# Altium integrated library Altera Cyclone IV E.IntLib: 223 symbols (part 11 of 32)
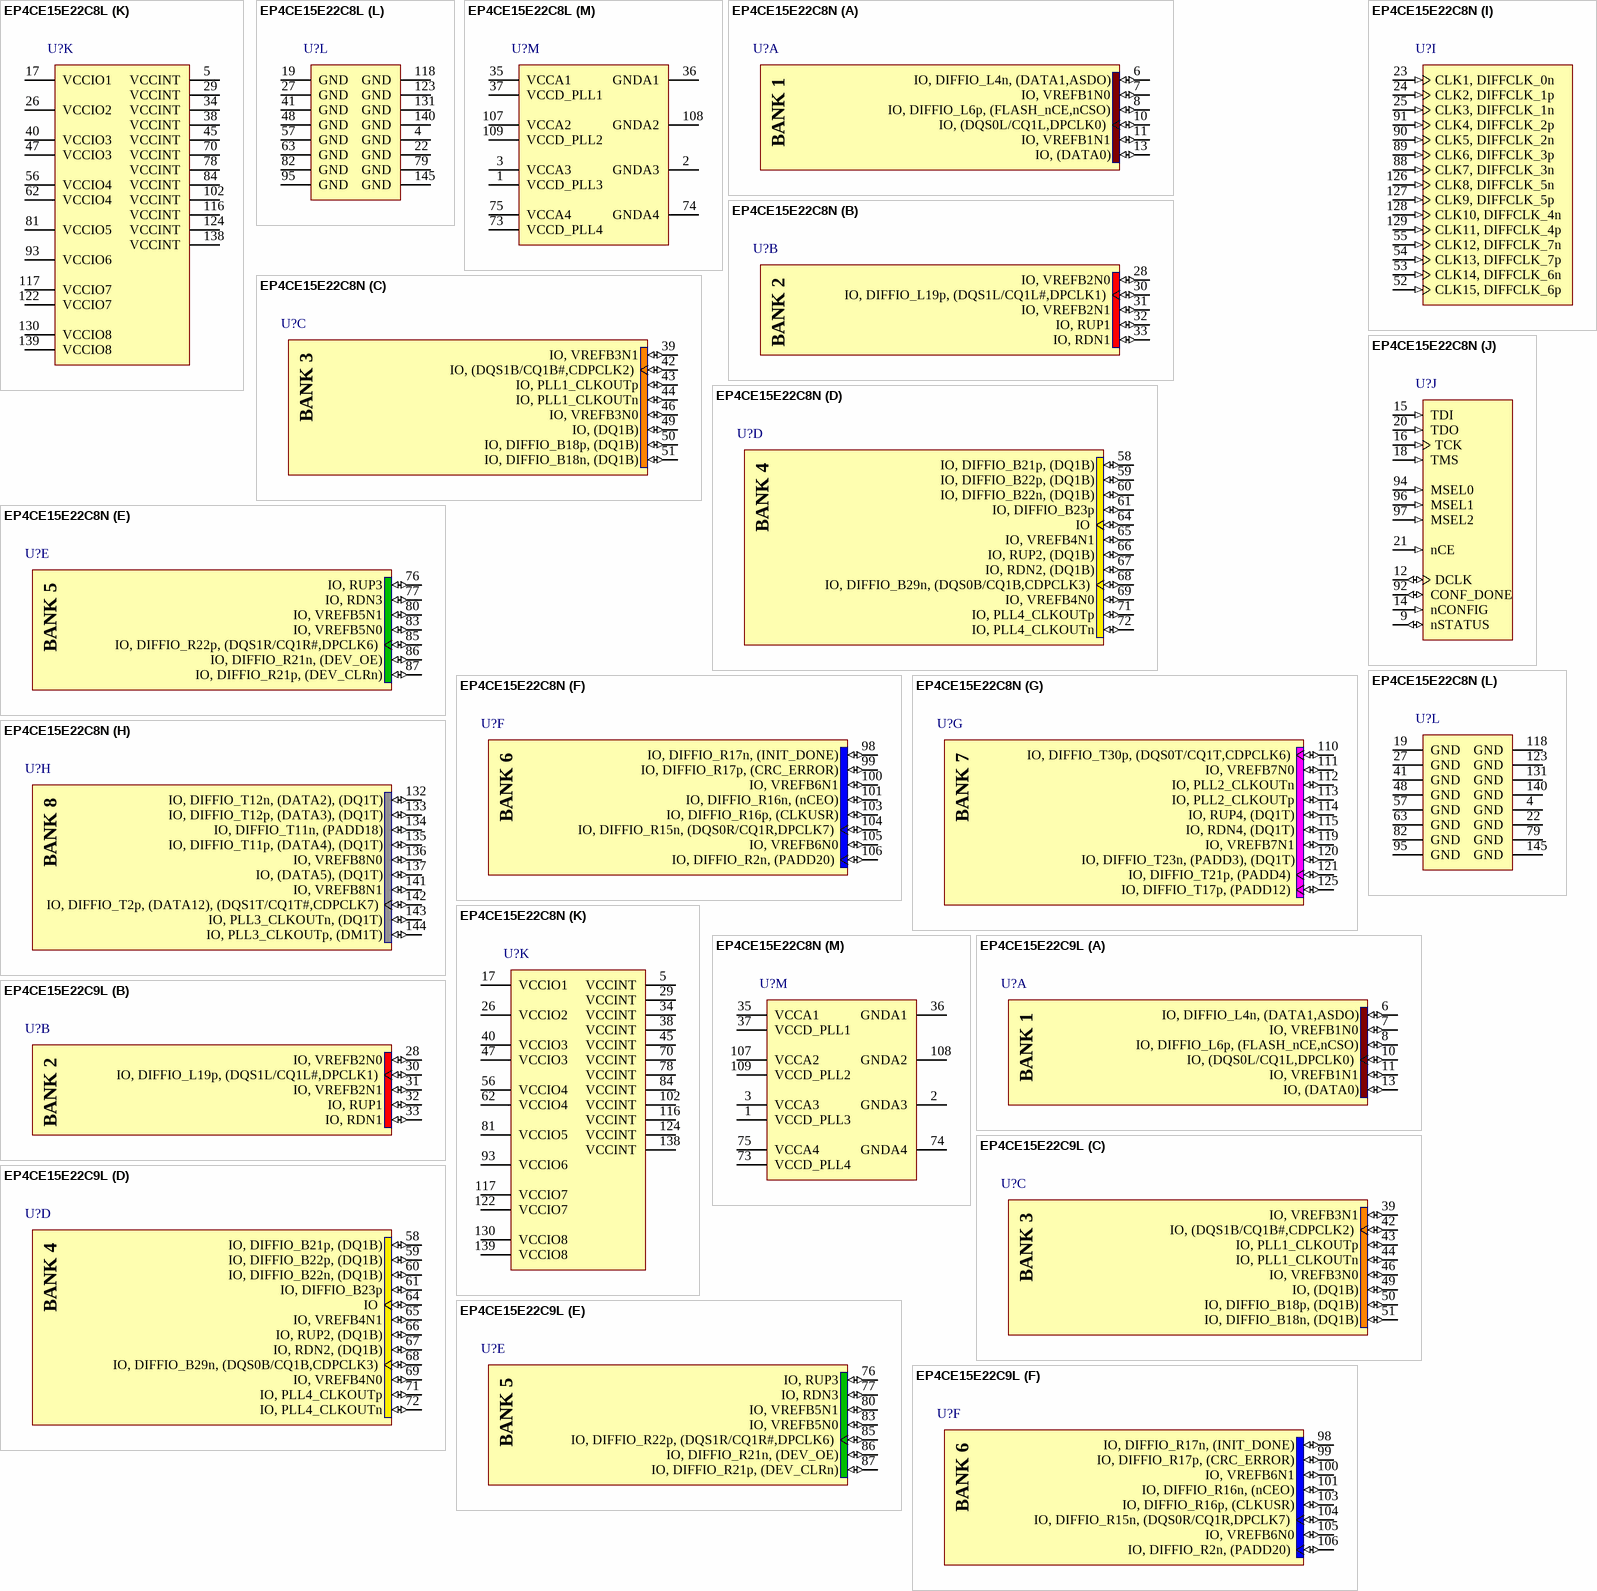
[diagram p505: symbols EP4CE15E22C8L to EP4CE15E22C9L]

## EP4CE15E22C8N
designator U?
Cyclone IV Family FPGA, 1.2V Core, 81 I/O Pins, 4 PLLs, 144-Pin QFP, Speed Grade 8, Commercial Grade, Pb-Free; Manufacturer: Altera; DatasheetVersion: ver1.6, Nov-2011; PackageVersion: ver1.0, Jun-2011; PackageReference: EQFP144_A-165_D2-67; PackageDescription: 144-Pin Plastic Enhanced Quad Flat Pack (EQFP) - Wire Bond - A:1.65 - D2:6.7; Code_JEDEC: MS-026-BFB-HD; ComponentLink1Description: Manufacturer URL; ComponentLink1URL: http://www.altera.com/; ComponentLink2Description: Handbook; ComponentLink2URL: http://www.altera.com/literature/hb/cyclone-iv/cyclone4-handbook.pdf; ComponentLink3Description: Pinout; ComponentLink3URL: http://www.altera.com/literature/lit-dp.jsp?category=cyc%204&showspreadsheet=y; ComponentLink4Description: Package Specification; ComponentLink4URL: http://www.altera.com/devicepackaging/04R00221-02.pdf
footprint EQFP144_A-165_D2-67_N (Shrink QFP, 144-Leads, Body 20x20mm, Pitch 0.5mm, Thermal Pad 6.85x6.85mm, IPC Medium Density)
footprint EQFP144_A-165_D2-67_L (Shrink QFP, 144-Leads, Body 20x20mm, Pitch 0.5mm, Thermal Pad 6.85x6.85mm, IPC High Density)
footprint EQFP144_A-165_D2-67_M (Shrink QFP, 144-Leads, Body 20x20mm, Pitch 0.5mm, Thermal Pad 6.85x6.85mm, IPC Low Density)
part A pins: 6 IO, DIFFIO_L4n, (DATA1,ASDO) (io), 7 IO, VREFB1N0 (io), 8 IO, DIFFIO_L6p, (FLASH_nCE,nCSO) (io), 10 IO, (DQS0L/CQ1L,DPCLK0) (io), 11 IO, VREFB1N1 (io), 13 IO, (DATA0) (io)
part B pins: 28 IO, VREFB2N0 (io), 30 IO, DIFFIO_L19p, (DQS1L/CQ1L#,DPCLK1) (io), 31 IO, VREFB2N1 (io), 32 IO, RUP1 (io), 33 IO, RDN1 (io)
part C pins: 39 IO, VREFB3N1 (io), 42 IO, (DQS1B/CQ1B#,CDPCLK2) (io), 43 IO, PLL1_CLKOUTp (io), 44 IO, PLL1_CLKOUTn (io), 46 IO, VREFB3N0 (io), 49 IO, (DQ1B) (io), 50 IO, DIFFIO_B18p, (DQ1B) (io), 51 IO, DIFFIO_B18n, (DQ1B) (io)
part D pins: 58 IO, DIFFIO_B21p, (DQ1B) (io), 59 IO, DIFFIO_B22p, (DQ1B) (io), 60 IO, DIFFIO_B22n, (DQ1B) (io), 61 IO, DIFFIO_B23p (io), 64 IO (io), 65 IO, VREFB4N1 (io), 66 IO, RUP2, (DQ1B) (io), 67 IO, RDN2, (DQ1B) (io), 68 IO, DIFFIO_B29n, (DQS0B/CQ1B,CDPCLK3) (io), 69 IO, VREFB4N0 (io), 71 IO, PLL4_CLKOUTp (io), 72 IO, PLL4_CLKOUTn (io)
part E pins: 76 IO, RUP3 (io), 77 IO, RDN3 (io), 80 IO, VREFB5N1 (io), 83 IO, VREFB5N0 (io), 85 IO, DIFFIO_R22p, (DQS1R/CQ1R#,DPCLK6) (io), 86 IO, DIFFIO_R21n, (DEV_OE) (io), 87 IO, DIFFIO_R21p, (DEV_CLRn) (io)
part F pins: 98 IO, DIFFIO_R17n, (INIT_DONE) (io), 99 IO, DIFFIO_R17p, (CRC_ERROR) (io), 100 IO, VREFB6N1 (io), 101 IO, DIFFIO_R16n, (nCEO) (io), 103 IO, DIFFIO_R16p, (CLKUSR) (io), 104 IO, DIFFIO_R15n, (DQS0R/CQ1R,DPCLK7) (io), 105 IO, VREFB6N0 (io), 106 IO, DIFFIO_R2n, (PADD20) (io)
part G pins: 110 IO, DIFFIO_T30p, (DQS0T/CQ1T,CDPCLK6) (io), 111 IO, VREFB7N0 (io), 112 IO, PLL2_CLKOUTn (io), 113 IO, PLL2_CLKOUTp (io), 114 IO, RUP4, (DQ1T) (io), 115 IO, RDN4, (DQ1T) (io), 119 IO, VREFB7N1 (io), 120 IO, DIFFIO_T23n, (PADD3), (DQ1T) (io), 121 IO, DIFFIO_T21p, (PADD4) (io), 125 IO, DIFFIO_T17p, (PADD12) (io)
part H pins: 132 IO, DIFFIO_T12n, (DATA2), (DQ1T) (io), 133 IO, DIFFIO_T12p, (DATA3), (DQ1T) (io), 134 IO, DIFFIO_T11n, (PADD18) (io), 135 IO, DIFFIO_T11p, (DATA4), (DQ1T) (io), 136 IO, VREFB8N0 (io), 137 IO, (DATA5), (DQ1T) (io), 141 IO, VREFB8N1 (io), 142 IO, DIFFIO_T2p, (DATA12), (DQS1T/CQ1T#,CDPCLK7) (io), 143 IO, PLL3_CLKOUTn, (DQ1T) (io), 144 IO, PLL3_CLKOUTp, (DM1T) (io)
part I pins: 23 CLK1, DIFFCLK_0n (in), 24 CLK2, DIFFCLK_1p (in), 25 CLK3, DIFFCLK_1n (in), 52 CLK15, DIFFCLK_6p (in), 53 CLK14, DIFFCLK_6n (in), 54 CLK13, DIFFCLK_7p (in), 55 CLK12, DIFFCLK_7n (in), 88 CLK7, DIFFCLK_3n (in), 89 CLK6, DIFFCLK_3p (in), 90 CLK5, DIFFCLK_2n (in), 91 CLK4, DIFFCLK_2p (in), 126 CLK8, DIFFCLK_5n (in), 127 CLK9, DIFFCLK_5p (in), 128 CLK10, DIFFCLK_4n (in), 129 CLK11, DIFFCLK_4p (in)
part J pins: 9 nSTATUS (io), 12 DCLK (io), 14 nCONFIG (in), 15 TDI (in), 16 TCK (in), 18 TMS (in), 20 TDO (in), 21 nCE (in), 92 CONF_DONE (io), 94 MSEL0 (in), 96 MSEL1 (in), 97 MSEL2 (in)
part K pins: 5 VCCINT (power), 17 VCCIO1 (power), 26 VCCIO2 (power), 29 VCCINT (power), 34 VCCINT (power), 38 VCCINT (power), 40 VCCIO3 (power), 45 VCCINT (power), 47 VCCIO3 (power), 56 VCCIO4 (power), 62 VCCIO4 (power), 70 VCCINT (power), 78 VCCINT (power), 81 VCCIO5 (power), 84 VCCINT (power), 93 VCCIO6 (power), 102 VCCINT (power), 116 VCCINT (power), 117 VCCIO7 (power), 122 VCCIO7 (power), 124 VCCINT (power), 130 VCCIO8 (power), 138 VCCINT (power), 139 VCCIO8 (power)
part L pins: 4 GND (power), 19 GND (power), 22 GND (power), 27 GND (power), 41 GND (power), 48 GND (power), 57 GND (power), 63 GND (power), 79 GND (power), 82 GND (power), 95 GND (power), 118 GND (power), 123 GND (power), 131 GND (power), 140 GND (power), 145 GND (power)
part M pins: 1 VCCD_PLL3 (power), 2 GNDA3 (power), 3 VCCA3 (power), 35 VCCA1 (power), 36 GNDA1 (power), 37 VCCD_PLL1 (power), 73 VCCD_PLL4 (power), 74 GNDA4 (power), 75 VCCA4 (power), 107 VCCA2 (power), 108 GNDA2 (power), 109 VCCD_PLL2 (power)
part A text: BANK 1
part B text: BANK 2
part C text: BANK 3
part D text: BANK 4
part E text: BANK 5
part F text: BANK 6
part G text: BANK 7
part H text: BANK 8

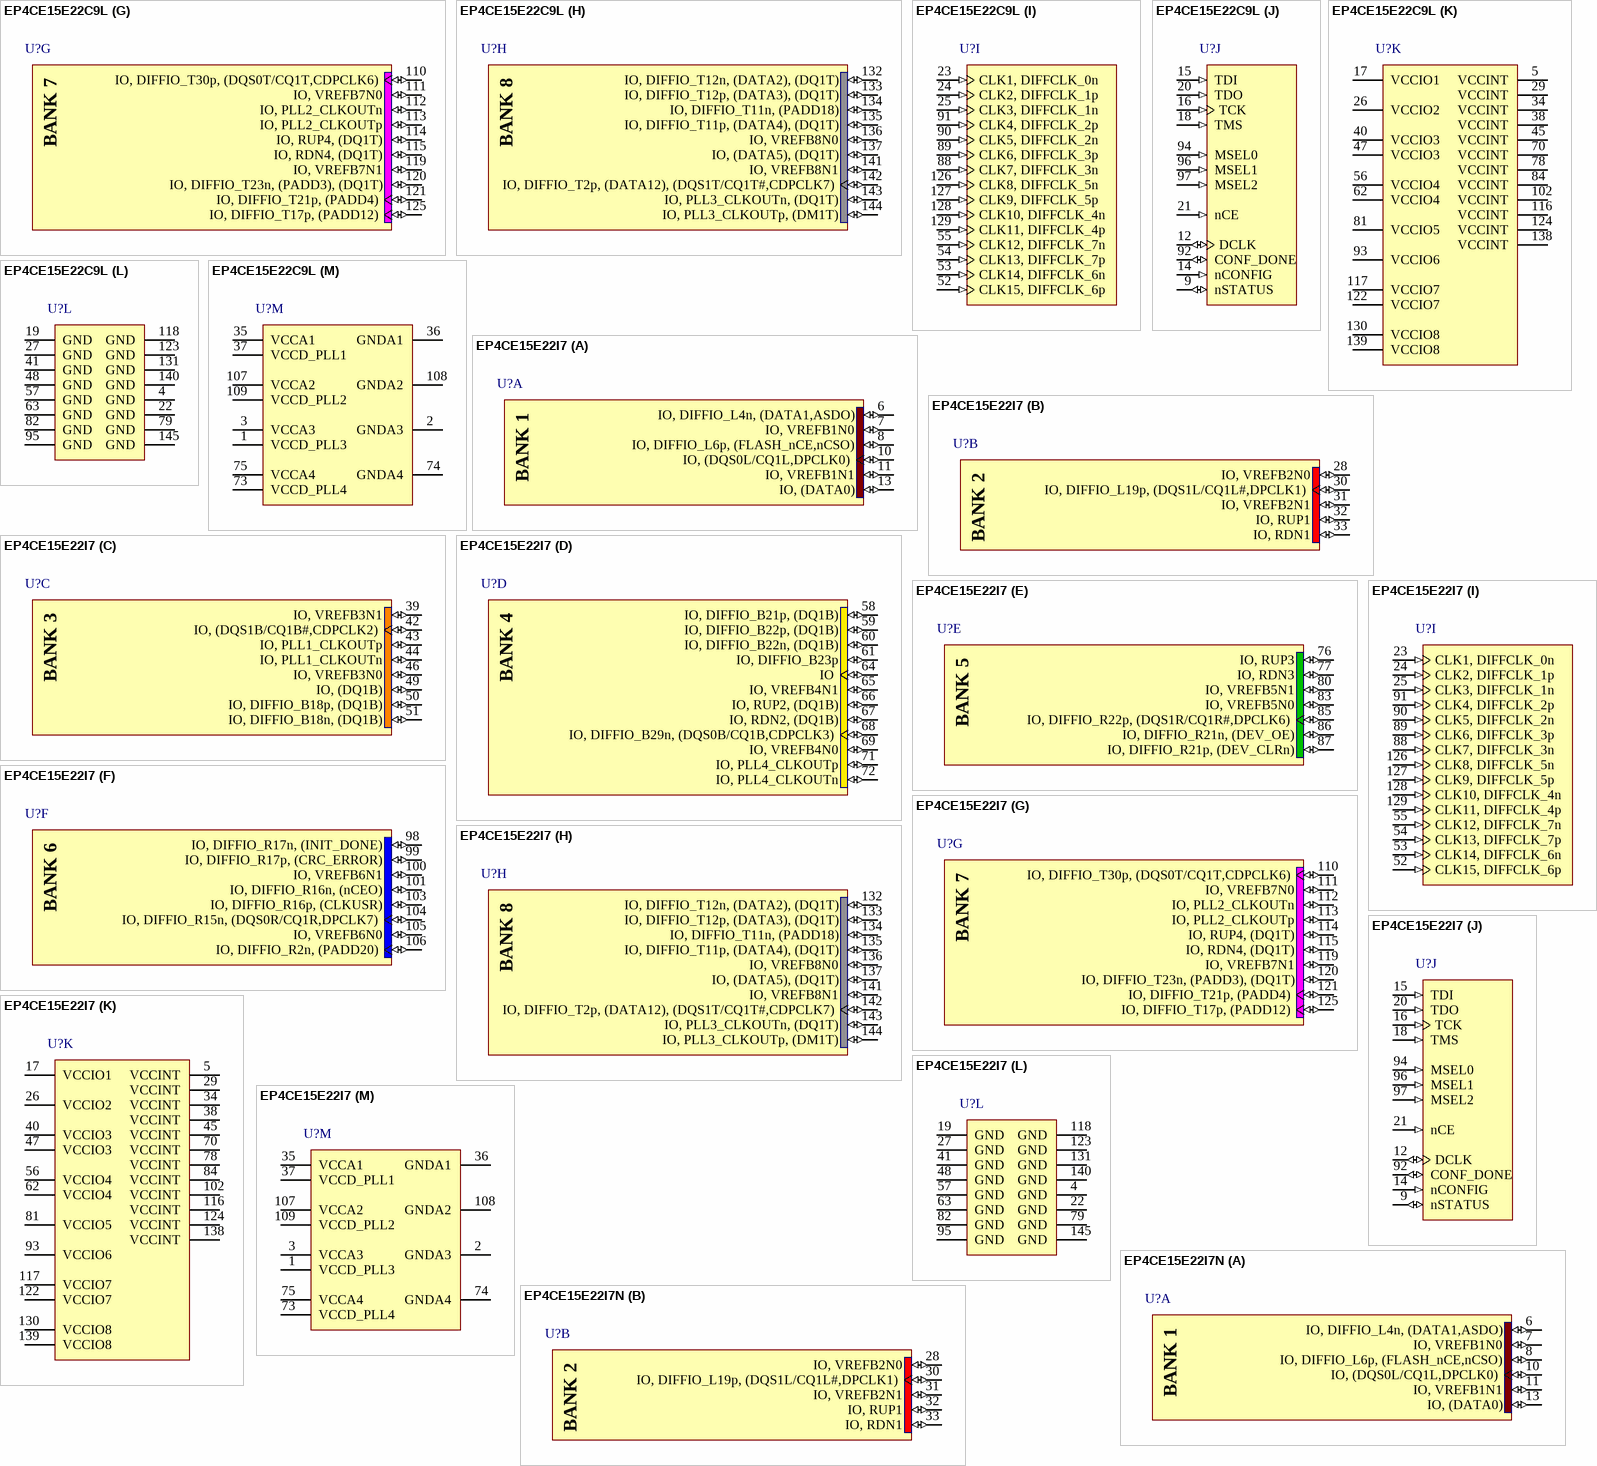
[diagram p55: symbols EP4CE15E22C9L to EP4CE15E22I7N]

## EP4CE15E22C9L
designator U?
Cyclone IV Family FPGA, 1V Core, 81 I/O Pins, 4 PLLs, 144-Pin QFP, Speed Grade 9, Commercial Grade; Manufacturer: Altera; DatasheetVersion: ver1.6, Nov-2011; PackageVersion: ver1.0, Jun-2011; PackageReference: EQFP144_A-165_D2-67; PackageDescription: 144-Pin Plastic Enhanced Quad Flat Pack (EQFP) - Wire Bond - A:1.65 - D2:6.7; Code_JEDEC: MS-026-BFB-HD; ComponentLink1Description: Manufacturer URL; ComponentLink1URL: http://www.altera.com/; ComponentLink2Description: Handbook; ComponentLink2URL: http://www.altera.com/literature/hb/cyclone-iv/cyclone4-handbook.pdf; ComponentLink3Description: Pinout; ComponentLink3URL: http://www.altera.com/literature/lit-dp.jsp?category=cyc%204&showspreadsheet=y; ComponentLink4Description: Package Specification; ComponentLink4URL: http://www.altera.com/devicepackaging/04R00221-02.pdf
footprint EQFP144_A-165_D2-67_N (Shrink QFP, 144-Leads, Body 20x20mm, Pitch 0.5mm, Thermal Pad 6.85x6.85mm, IPC Medium Density)
footprint EQFP144_A-165_D2-67_L (Shrink QFP, 144-Leads, Body 20x20mm, Pitch 0.5mm, Thermal Pad 6.85x6.85mm, IPC High Density)
footprint EQFP144_A-165_D2-67_M (Shrink QFP, 144-Leads, Body 20x20mm, Pitch 0.5mm, Thermal Pad 6.85x6.85mm, IPC Low Density)
part A pins: 6 IO, DIFFIO_L4n, (DATA1,ASDO) (io), 7 IO, VREFB1N0 (io), 8 IO, DIFFIO_L6p, (FLASH_nCE,nCSO) (io), 10 IO, (DQS0L/CQ1L,DPCLK0) (io), 11 IO, VREFB1N1 (io), 13 IO, (DATA0) (io)
part B pins: 28 IO, VREFB2N0 (io), 30 IO, DIFFIO_L19p, (DQS1L/CQ1L#,DPCLK1) (io), 31 IO, VREFB2N1 (io), 32 IO, RUP1 (io), 33 IO, RDN1 (io)
part C pins: 39 IO, VREFB3N1 (io), 42 IO, (DQS1B/CQ1B#,CDPCLK2) (io), 43 IO, PLL1_CLKOUTp (io), 44 IO, PLL1_CLKOUTn (io), 46 IO, VREFB3N0 (io), 49 IO, (DQ1B) (io), 50 IO, DIFFIO_B18p, (DQ1B) (io), 51 IO, DIFFIO_B18n, (DQ1B) (io)
part D pins: 58 IO, DIFFIO_B21p, (DQ1B) (io), 59 IO, DIFFIO_B22p, (DQ1B) (io), 60 IO, DIFFIO_B22n, (DQ1B) (io), 61 IO, DIFFIO_B23p (io), 64 IO (io), 65 IO, VREFB4N1 (io), 66 IO, RUP2, (DQ1B) (io), 67 IO, RDN2, (DQ1B) (io), 68 IO, DIFFIO_B29n, (DQS0B/CQ1B,CDPCLK3) (io), 69 IO, VREFB4N0 (io), 71 IO, PLL4_CLKOUTp (io), 72 IO, PLL4_CLKOUTn (io)
part E pins: 76 IO, RUP3 (io), 77 IO, RDN3 (io), 80 IO, VREFB5N1 (io), 83 IO, VREFB5N0 (io), 85 IO, DIFFIO_R22p, (DQS1R/CQ1R#,DPCLK6) (io), 86 IO, DIFFIO_R21n, (DEV_OE) (io), 87 IO, DIFFIO_R21p, (DEV_CLRn) (io)
part F pins: 98 IO, DIFFIO_R17n, (INIT_DONE) (io), 99 IO, DIFFIO_R17p, (CRC_ERROR) (io), 100 IO, VREFB6N1 (io), 101 IO, DIFFIO_R16n, (nCEO) (io), 103 IO, DIFFIO_R16p, (CLKUSR) (io), 104 IO, DIFFIO_R15n, (DQS0R/CQ1R,DPCLK7) (io), 105 IO, VREFB6N0 (io), 106 IO, DIFFIO_R2n, (PADD20) (io)
part G pins: 110 IO, DIFFIO_T30p, (DQS0T/CQ1T,CDPCLK6) (io), 111 IO, VREFB7N0 (io), 112 IO, PLL2_CLKOUTn (io), 113 IO, PLL2_CLKOUTp (io), 114 IO, RUP4, (DQ1T) (io), 115 IO, RDN4, (DQ1T) (io), 119 IO, VREFB7N1 (io), 120 IO, DIFFIO_T23n, (PADD3), (DQ1T) (io), 121 IO, DIFFIO_T21p, (PADD4) (io), 125 IO, DIFFIO_T17p, (PADD12) (io)
part H pins: 132 IO, DIFFIO_T12n, (DATA2), (DQ1T) (io), 133 IO, DIFFIO_T12p, (DATA3), (DQ1T) (io), 134 IO, DIFFIO_T11n, (PADD18) (io), 135 IO, DIFFIO_T11p, (DATA4), (DQ1T) (io), 136 IO, VREFB8N0 (io), 137 IO, (DATA5), (DQ1T) (io), 141 IO, VREFB8N1 (io), 142 IO, DIFFIO_T2p, (DATA12), (DQS1T/CQ1T#,CDPCLK7) (io), 143 IO, PLL3_CLKOUTn, (DQ1T) (io), 144 IO, PLL3_CLKOUTp, (DM1T) (io)
part I pins: 23 CLK1, DIFFCLK_0n (in), 24 CLK2, DIFFCLK_1p (in), 25 CLK3, DIFFCLK_1n (in), 52 CLK15, DIFFCLK_6p (in), 53 CLK14, DIFFCLK_6n (in), 54 CLK13, DIFFCLK_7p (in), 55 CLK12, DIFFCLK_7n (in), 88 CLK7, DIFFCLK_3n (in), 89 CLK6, DIFFCLK_3p (in), 90 CLK5, DIFFCLK_2n (in), 91 CLK4, DIFFCLK_2p (in), 126 CLK8, DIFFCLK_5n (in), 127 CLK9, DIFFCLK_5p (in), 128 CLK10, DIFFCLK_4n (in), 129 CLK11, DIFFCLK_4p (in)
part J pins: 9 nSTATUS (io), 12 DCLK (io), 14 nCONFIG (in), 15 TDI (in), 16 TCK (in), 18 TMS (in), 20 TDO (in), 21 nCE (in), 92 CONF_DONE (io), 94 MSEL0 (in), 96 MSEL1 (in), 97 MSEL2 (in)
part K pins: 5 VCCINT (power), 17 VCCIO1 (power), 26 VCCIO2 (power), 29 VCCINT (power), 34 VCCINT (power), 38 VCCINT (power), 40 VCCIO3 (power), 45 VCCINT (power), 47 VCCIO3 (power), 56 VCCIO4 (power), 62 VCCIO4 (power), 70 VCCINT (power), 78 VCCINT (power), 81 VCCIO5 (power), 84 VCCINT (power), 93 VCCIO6 (power), 102 VCCINT (power), 116 VCCINT (power), 117 VCCIO7 (power), 122 VCCIO7 (power), 124 VCCINT (power), 130 VCCIO8 (power), 138 VCCINT (power), 139 VCCIO8 (power)
part L pins: 4 GND (power), 19 GND (power), 22 GND (power), 27 GND (power), 41 GND (power), 48 GND (power), 57 GND (power), 63 GND (power), 79 GND (power), 82 GND (power), 95 GND (power), 118 GND (power), 123 GND (power), 131 GND (power), 140 GND (power), 145 GND (power)
part M pins: 1 VCCD_PLL3 (power), 2 GNDA3 (power), 3 VCCA3 (power), 35 VCCA1 (power), 36 GNDA1 (power), 37 VCCD_PLL1 (power), 73 VCCD_PLL4 (power), 74 GNDA4 (power), 75 VCCA4 (power), 107 VCCA2 (power), 108 GNDA2 (power), 109 VCCD_PLL2 (power)
part A text: BANK 1
part B text: BANK 2
part C text: BANK 3
part D text: BANK 4
part E text: BANK 5
part F text: BANK 6
part G text: BANK 7
part H text: BANK 8